# Altium footprint library running car pcb.PcbLib: 35 footprints (part 2 of 3)
Each footprint in its own frame and in the unit in brackets; x right, y up, seen from the top. Pads: shape width x height; smd on the part's side, far side on the other; paste and mask are expansions set on the pad; w line width, h text height; cw(c..) or ccw(c..) is an arc to the next point about the centre after c.
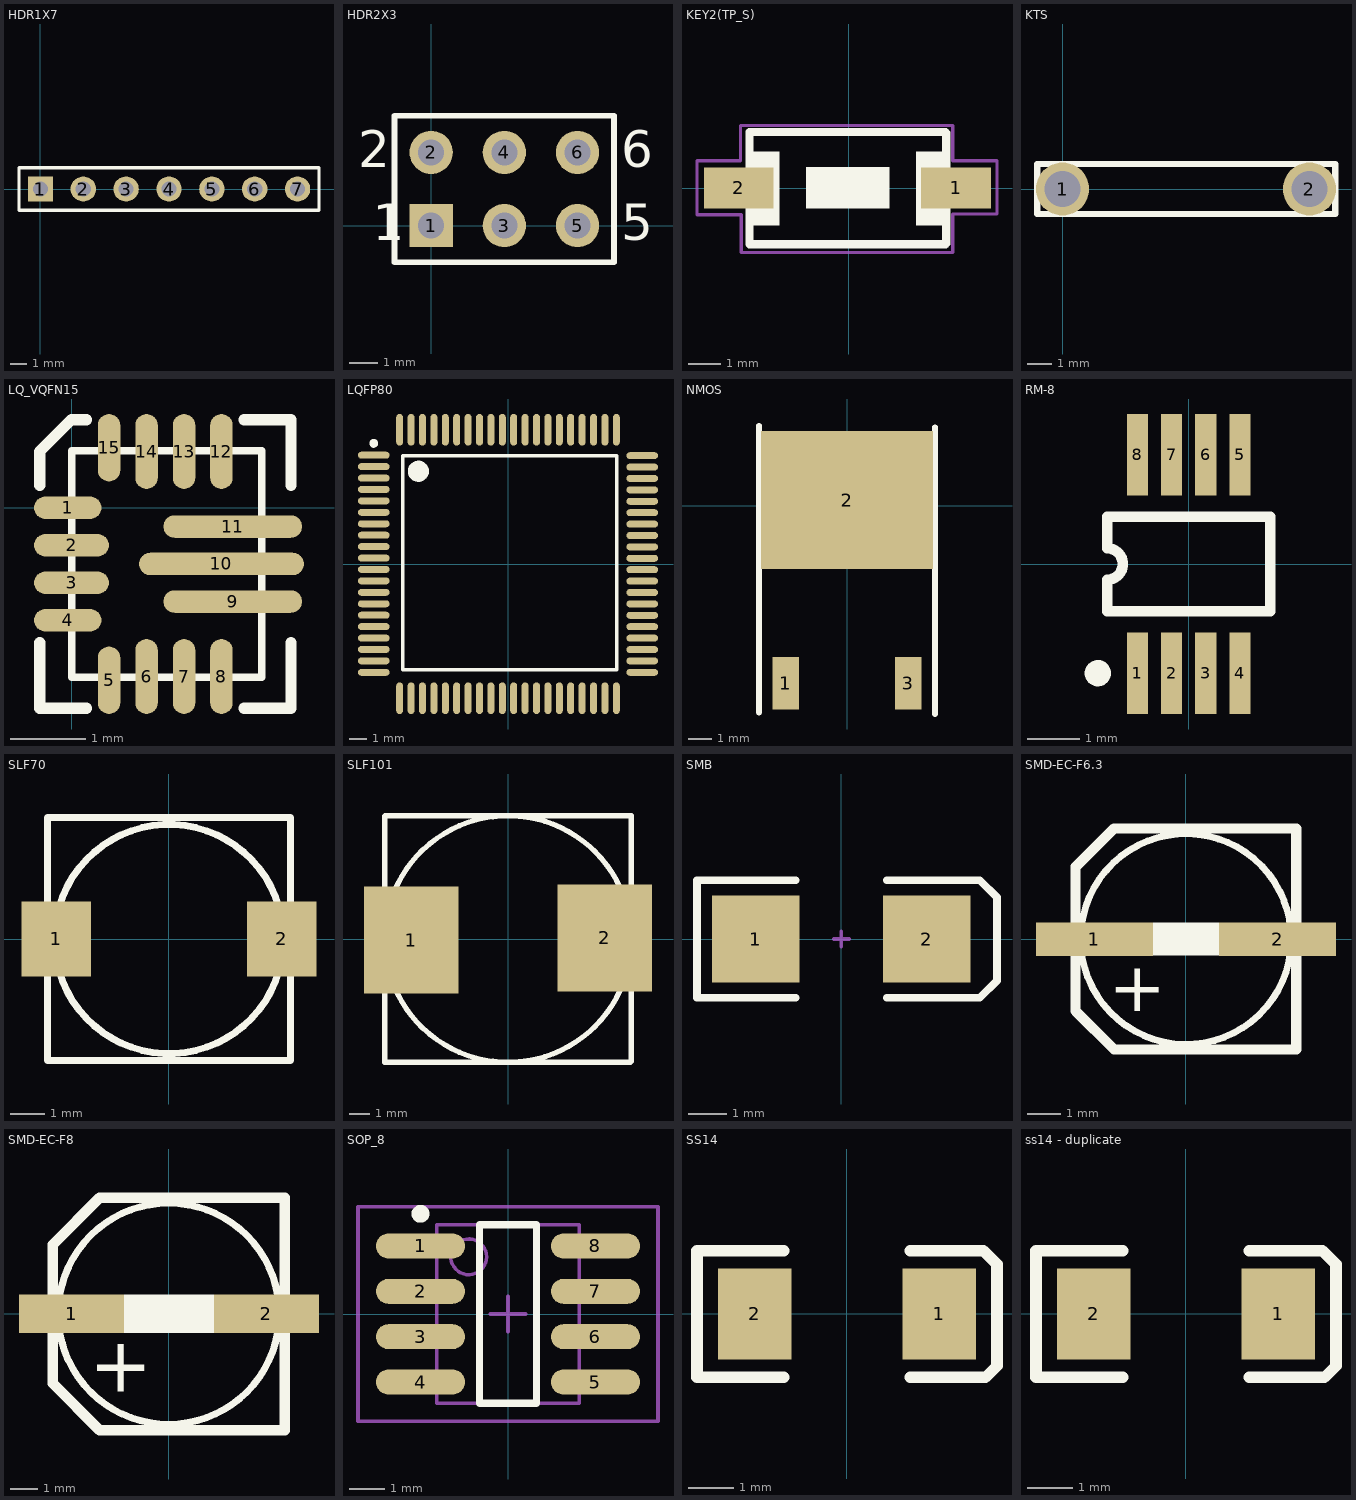
[diagram p1: the footprints below, top view; thin cyan lines are the x and y axes]

## HDR1X7 [mm] "Connector; Header; 7 Position"
pads (7):
  rect 1.5x1.5 hole 0.9: 1(0,0)
  round 1.5 hole 0.9: 2(2.54,0) 3(5.08,0) 4(7.62,0) 5(10.16,0) 6(12.7,0) 7(15.24,0)
Top Overlay:
  lines w0.2: -1.27,-1.27 16.51,-1.27 16.51,1.27 -1.27,1.27 -1.27,-1.27

## HDR2X3 [mm] "Connector; Header; 3x2 Position"
pads (6):
  rect 1.5x1.5 hole 0.9: 1(0,0)
  round 1.5 hole 0.9: 2(0,2.54) 3(2.54,0) 4(2.54,2.54) 5(5.08,0) 6(5.08,2.54)
Top Overlay:
  lines w0.2: 1.482,-1.27 6.35,-1.27 ; 6.35,-1.27 -1.27,-1.27 -1.27,3.81 6.35,3.81 6.35,-1.27
  text "1" at -2.032,-0.508 h1.27
  text "2" at -2.54,2.032 h1.27
  text "5" at 6.604,-0.508 h1.27
  text "6" at 6.604,2.032 h1.27

## KEY2(TP_S) [mil]
pads (2):
  rect 85x50 smd: 1(131,0.5) 2(-134,0.5)
Top Overlay:
  region: -84.1,44.74 -116.1,44.74 -116.1,-45.26 -84.1,-45.26
  region: 113.9,44.74 81.9,44.74 81.9,-45.26 113.9,-45.26
  region: 49.5,-24.5 -51.5,-24.5 -51.5,25.5 49.5,25.5
  lines w10: -121,-68.5 -121,-0.5 -121,68.5 118,68.5 119,67.5 119,-0.5 119,-67.5 118,-68.5 -121,-68.5
Mechanical 15:
  lines w3.94: -185,-32.5 -131,-32.5 -131,-78.5 122,-78.5 127,-78.5 127,-31.5 129,-31.5 181,-31.5 181,33.5 127,33.5 127,76.5 -132,76.5 -132,33.5 -185,33.5 -185,-32.5

## KTS [mm]
pads (2):
  round 2.15 hole 1.45: 1(0,0) 2(9.996,0)
Top Overlay:
  lines w0.254: -1.02,-1.016 -1.02,1.016 11.045,1.016 11.045,-1.016 -1.02,-1.016

## LQ_VQFN15 [mm]
pads (15):
  oval 0.9x0.3 smd: 1(-0.05,0) 4(-0.05,-1.5)
  oval 1x0.3 smd: 2(0,-0.5) 3(0,-1)
  oval 0.3x0.9 smd: 5(0.5,-2.3) 15(0.5,0.8)
  oval 0.3x1 smd: 6(1,-2.25) 7(1.5,-2.25) 8(2,-2.25) 12(2,0.75) 13(1.5,0.75) 14(1,0.75)
  oval 1.85x0.3 smd: 9(2.15,-1.25) 11(2.15,-0.25)
  oval 2.2x0.3 smd: 10(2,-0.75)
Top Overlay:
  lines w0.1: 0,-2.261 0,0 0,0.762 2.54,0.762 2.54,-2.261 0,-2.261
  lines w0.15: -0.425,-1.8 -0.425,-2.675 0.2,-2.675 ; -0.425,0.3 -0.425,0.75 0,1.175 0.2,1.175 ; 2.3,-2.675 2.925,-2.675 2.925,-1.8 ; 2.3,1.175 2.925,1.175 2.925,0.3

## LQFP80 [mm]
pads (80):
  oval 1.8x0.4 smd: 1(-7.65,6.202) 2(-7.65,5.551) 3(-7.65,4.899) 4(-7.65,4.248) 5(-7.65,3.596) 6(-7.65,2.945) 7(-7.65,2.294) 8(-7.65,1.642) 9(-7.65,0.991) 10(-7.65,0.339) 11(-7.65,-0.312) 12(-7.65,-0.964) 13(-7.65,-1.615) 14(-7.65,-2.266) 15(-7.65,-2.918) 16(-7.65,-3.569) 17(-7.65,-4.221) 18(-7.65,-4.872) 19(-7.65,-5.524) 20(-7.65,-6.175) 41(7.65,-6.175) 42(7.65,-5.525) 43(7.65,-4.875) 44(7.65,-4.225) 45(7.65,-3.575) 46(7.65,-2.925) 47(7.65,-2.275) 48(7.65,-1.625) 49(7.65,-0.975) 50(7.65,-0.325) 51(7.65,0.325) 52(7.65,0.975) 53(7.65,1.625) 54(7.65,2.275) 55(7.65,2.925) 56(7.65,3.575) 57(7.65,4.225) 58(7.65,4.875) 59(7.65,5.525) 60(7.65,6.175)
  oval 0.4x1.8 smd: 21(-6.175,-7.65) 22(-5.525,-7.65) 23(-4.875,-7.65) 24(-4.225,-7.65) 25(-3.575,-7.65) 26(-2.925,-7.65) 27(-2.275,-7.65) 28(-1.625,-7.65) 29(-0.975,-7.65) 30(-0.325,-7.65) 31(0.325,-7.65) 32(0.975,-7.65) 33(1.625,-7.65) 34(2.275,-7.65) 35(2.925,-7.65) 36(3.575,-7.65) 37(4.225,-7.65) 38(4.875,-7.65) 39(5.525,-7.65) 40(6.175,-7.65) 61(6.175,7.65) 62(5.525,7.65) 63(4.875,7.65) 64(4.225,7.65) 65(3.575,7.65) 66(2.925,7.65) 67(2.275,7.65) 68(1.625,7.65) 69(0.975,7.65) 70(0.325,7.65) 71(-0.325,7.65) 72(-0.975,7.65) 73(-1.625,7.65) 74(-2.275,7.65) 75(-2.925,7.65) 76(-3.575,7.65) 77(-4.225,7.65) 78(-4.875,7.65) 79(-5.525,7.65) 80(-6.175,7.65)
Top Overlay:
  circle w0.6: c-5.11,5.286 r0.3
  circle w0.25: c-7.65,6.875 r0.125
  lines w0.2: -5.999,-6.017 6.193,-6.017 6.193,6.175 -5.999,6.175 -5.999,-6.017

## NMOS [mil]
pads (3):
  rect 45x90 smd: 1(-105,-305) 3(105,-305)
  rect 295.28x236.22 smd: 2(0,9.84)
Top Overlay:
  lines w10: -150.79,-354.72 -150.79,137.4 ; 150.79,-357.48 150.79,134.65
3D body: height 94.19, standoff -0.89, extent -129.74,-298 127.74,93.27

## RM-8 [mm] "Shrink Small Outline, MSOP; 8 Leads; Body Width 3 mm; Pitch 0.65 mm"
height 1.1
pads (8):
  rect 0.4x1.55 smd: 1(-0.975,-2.075) 2(-0.325,-2.075) 3(0.325,-2.075) 4(0.975,-2.075) 5(0.975,2.075) 6(0.325,2.075) 7(-0.325,2.075) 8(-0.975,2.075)
Top Overlay:
  circle w0.25: c-1.725,-2.075 r0.125
  lines w0.2: -1.55,-0.9 1.55,-0.9 1.55,0.9 -1.55,0.9 -1.55,0.3 cw(c-1.55,0) -1.55,-0.3 -1.55,-0.9

## SLF70 [mm]
pads (2):
  rect 2x2.15 smd: 1(-3.25,0) 2(3.25,0)
Top Overlay:
  circle w0.203: c0,0 r3.302
  lines w0.203: -3.5,-3.5 -3.5,3.5 3.5,3.5 3.5,-3.5 -3.5,-3.5

## SLF101 [mm]
pads (2):
  rect 4.6x5.2 smd: 1(-4.7,-0.05) 2(4.7,0.05)
Top Overlay:
  circle w0.254: c0,0 r6
  lines w0.254: -6,-0.355 -6,5.989 -5.989,6 6,6 6,-5.963 5.963,-6 -6,-6 -6,-0.05

## SMB [mm] "DO-214-AA/SMB; 2 C-Bend Leads; Body 5.3 x 3.6 mm, inc. leads (LxW)"
height 2.54
pads (2):
  rect 2.3x2.3 smd: 1(-2.25,0) 2(2.25,0)
Top Overlay:
  lines w0.2: -1.2,-1.55 -3.8,-1.55 -3.8,1.55 -1.2,1.55 ; 1.2,-1.55 3.65,-1.55 4.1,-1.1 4.1,1.1 3.65,1.55 1.2,1.55
Mechanical 1:
  lines w0.1: -0.2,0 0.2,0 ; 0,-0.2 0,0.2

## SMD-EC-F6.3 [mm]
pads (2):
  rect 3.5x1 smd: 1(-2.737,0) 2(2.737,0)
Top Overlay:
  rectangle: -0.991,-0.496 0.993,0.5
  lines w0.203: 2.93,1.154 cw(c-0.001,0.002) 2.93,1.156
  lines w0.305: -2.151,-3.303 -3.301,-2.152 -3.301,2.163 -2.151,3.314 ; -2.148,-3.305 3.299,-3.305 3.299,3.309 -2.145,3.309
  text "+" at -2.307,-2.164 h1.5

## SMD-EC-F8 [mm]
pads (2):
  rect 3.8x1.4 smd: 1(-3.525,0) 2(3.525,0)
Top Overlay:
  rectangle: -1.636,-0.7 1.627,0.7
  lines w0.254: 3.99,0 ccw(c-0.01,0) 3.99,0
  lines w0.381: -4.211,2.499 -2.512,4.198 ; -4.211,2.499 -4.211,-2.52 -2.512,-4.219 4.189,-4.219 4.189,4.198 -2.512,4.198 ; -4.211,2.499 -2.512,4.198
  text "+" at -2.885,-2.818 h2

## SOP_8 [mm] "SOIC, 8-Leads, Body 5.3x5.4mm (max), Pitch 1.27mm, IPC Medium Density"
height 2.16
pads (8):
  oval 2.5x0.7 smd: 1(-2.45,1.905) 2(-2.45,0.635) 3(-2.45,-0.635) 4(-2.45,-1.905) 5(2.45,-1.905) 6(2.45,-0.635) 7(2.45,0.635) 8(2.45,1.905)
Top Overlay:
  circle w0.25: c-2.45,2.805 r0.125
  lines w0.2: -0.8,-2.5 0.8,-2.5 0.8,2.5 -0.8,2.5 -0.8,-2.5
Mechanical 13:
  circle w0.1: c-1.1,1.6 r0.5
  lines w0.1: -2,-2.5 2,-2.5 2,2.5 -2,2.5 -2,-2.5
Mechanical 15:
  lines w0.1: -0.5,0 0.5,0 ; 0,-0.5 0,0.5 ; -4.2,-3 4.2,-3 4.2,3 -4.2,3 -4.2,-3
3D body: height 1.75, standoff 0, extent -2.974,-2.475 3.026,2.425

## SS14 [mm]
pads (2):
  rect 1.624x2 smd: 1(2.032,0) 2(-2.032,0)
Top Overlay:
  lines w0.254: -1.397,-1.397 -3.302,-1.397 -3.302,1.397 -1.397,1.397 ; 1.397,-1.397 3.048,-1.397 3.302,-1.143 3.302,1.092 2.997,1.397 1.397,1.397

## ss14 - duplicate [mm]
pads (2):
  rect 1.624x2 smd: 1(2.032,0) 2(-2.032,0)
Top Overlay:
  lines w0.254: -1.397,-1.397 -3.302,-1.397 -3.302,1.397 -1.397,1.397 ; 1.397,-1.397 3.048,-1.397 3.302,-1.143 3.302,1.092 2.997,1.397 1.397,1.397